# EAGLE library part PBU4U (library switch-e-switch)
4PDT PUSHBUTTON SWITCH
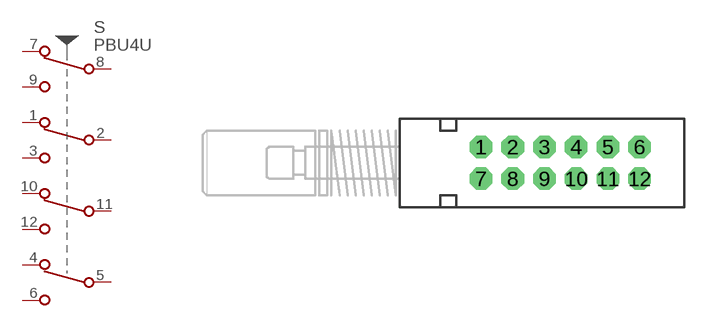
[diagram p8: symbol with the pads of PBH4U; footprint PBH4U]

Designator prefix S

## PBU4U  [PBH4U]
1  B-NC  pas
2  B-COM  pas
3  B-NO  pas
4  D-NC  pas
5  D-COM  pas
6  D-NO  pas
7  A-NC  pas
8  A-COM  pas
9  A-NO  pas
10  C-NC  pas
11  C-COM  pas
12  C-NO  pas

## Footprint PBH4U (pad centres in mm)
Pushbutton Switch PBH Series
drill 0.711 pad 1.778 octagon: 1 -2.5,1.25; 2 0,1.25; 3 2.5,1.25; 4 5,1.25; 5 7.5,1.25; 6 10,1.25; 7 -2.5,-1.25; 8 0,-1.25; 9 2.5,-1.25; 10 5,-1.25; 11 7.5,-1.25; 12 10,-1.25